# Altium schematic symbol library Movandi_2.SchLib: 14 symbols
Pins are listed as number, name and electrical type; pins without a type are passive.

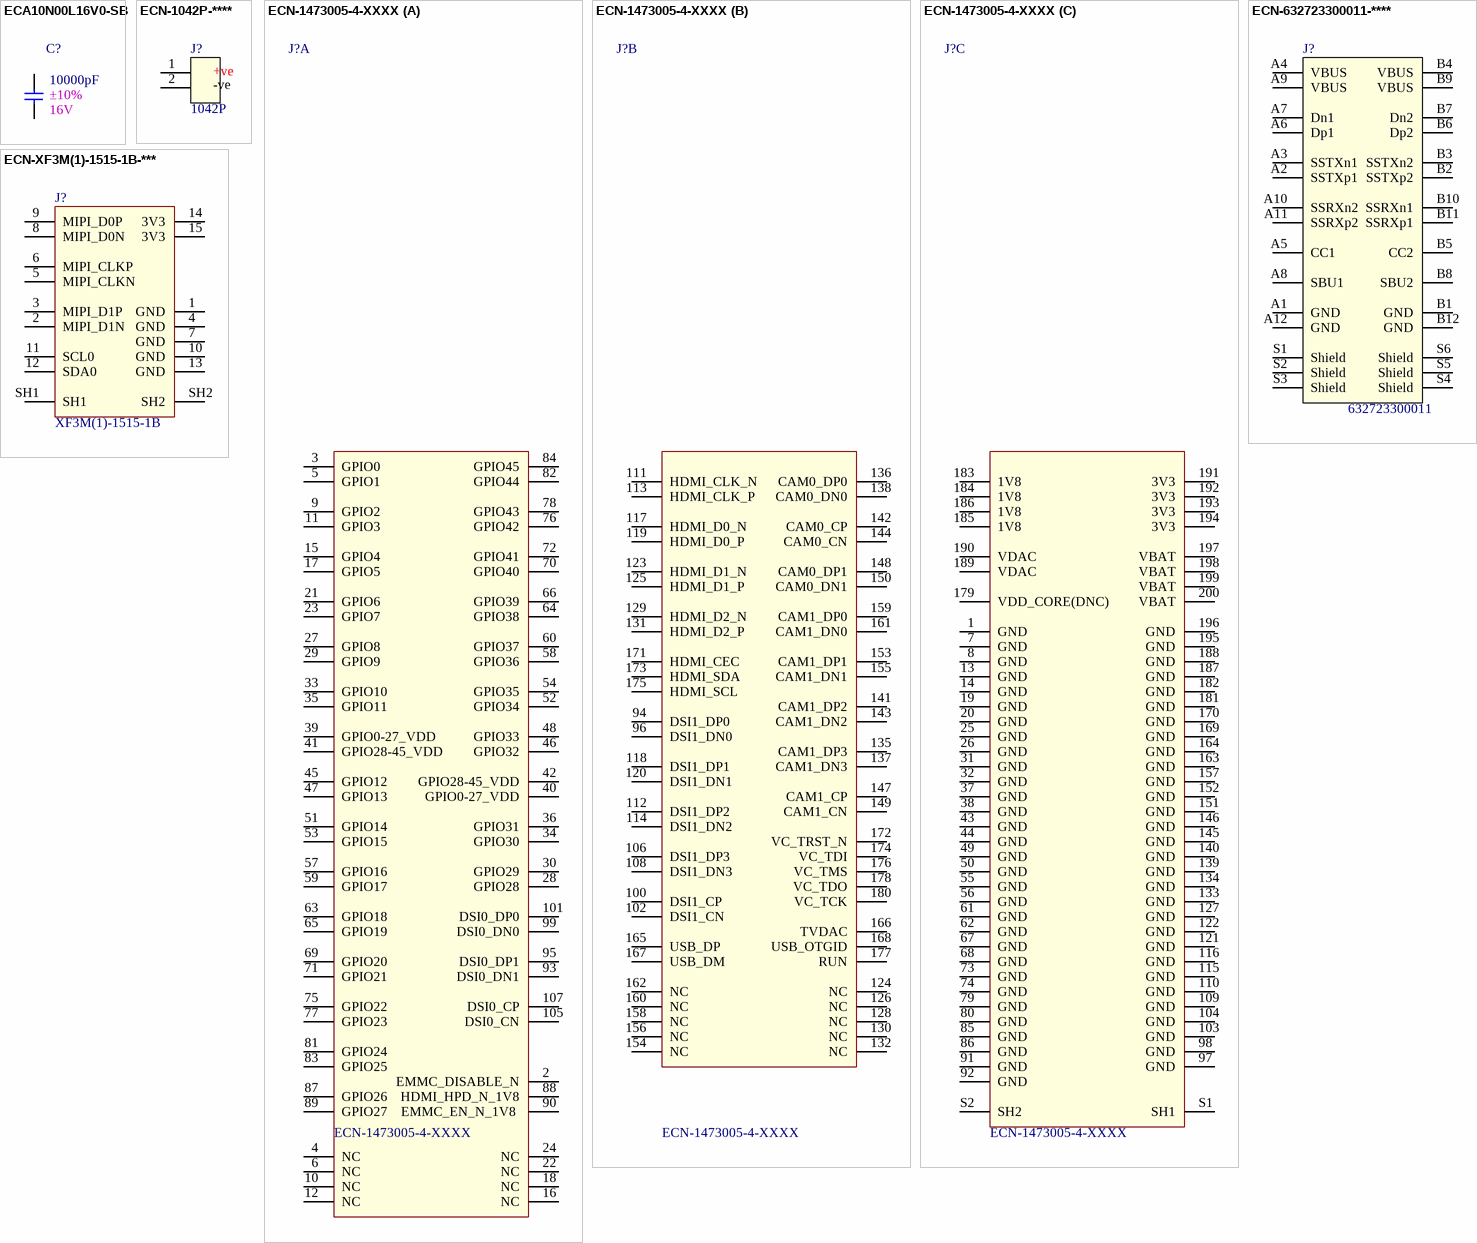
[diagram p0: symbols ECA10N00L16V0-SB to ECN-XF3M(1)-1515-1B-***]

## ECA10N00L16V0-SB
designator C?, comment value 10000pF  1st Auxiliary Field: 16V  2nd Auxiliary Field: ±10%  (hidden comment: CAP CER 10000PF 16V X7R 0402)
Manufacturer: TDK Corporation; Manufacturer Part Number: C1005X7R1C103K050BA; Internal Part Number: ECA10N00L16V0-SB; Vendor Part Number: 445-1262-1-ND; 3rd Auxiliary Field: ROHS3 Compliant; Component Height (mm): 0.55mm; Vendor Name: Digi-Key; Temp Co: X7R; Part Type: CAP CER 10000PF 16V X7R 0402; 4th Auxiliary Field: *
footprint SMDC0402
pins: 1, 2

## ECN-1042P-****
designator J?, comment value 1042P  (hidden comment: BATTERY HOLDER 18650 SMD TAB)
Internal Part Number: ECN-1042P-****; Manufacturer: Keystone Electronics; Vendor Part Number: 36-1042P-ND; 2nd Auxiliary Field: 18650; 3rd Auxiliary Field: ROHS3 Compliant; Component Height (mm): 14.86mm; Temp Co: -50°C ~ 145°C; Vendor Name: Digi-Key; 1st Auxiliary Field: 1; 4th Auxiliary Field: *; Part Type: BATTERY HOLDER 18650 SMD TAB; Manufacturer Part Number: 1042P
footprint BAT_1042P
pins: 1, 2 (power)
text: +ve; -ve

## ECN-1473005-4-XXXX
designator J?
200 Position SODIMM DDR2 SDRAM Socket Surface Mount, Right Angle; Manufacturer: TE Connectivity AMP Connectors; Vendor Part Number: A114851-ND; 2nd Auxiliary Field: ROHS complaint; Component Height (mm): 9mm; Vendor Name: Digi-Key; 1st Auxiliary Field: *; 3rd Auxiliary Field: *; 4th Auxiliary Field: *; Internal Part Number: ECN-1473005-4-XXXX; Manufacturer Part Number: 1473005-4; Part Type: CONN SKT SODIMM 200POS R/A SMD; Temp Co: *; Value: ECN-1473005-4-XXXX
footprint CONN_200_1473005
part A pins: 2 EMMC_DISABLE_N (power), 3 GPIO0 (power), 4 NC (power), 5 GPIO1 (power), 6 NC (power), 9 GPIO2 (power), 10 NC (power), 11 GPIO3 (power), 12 NC (power), 15 GPIO4 (power), 16 NC (power), 17 GPIO5 (power), 18 NC (power), 21 GPIO6 (power), 22 NC (power), 23 GPIO7 (power), 24 NC (power), 27 GPIO8 (power), 28 GPIO28 (power), 29 GPIO9 (power), 30 GPIO29 (power), 33 GPIO10 (power), 34 GPIO30 (power), 35 GPIO11 (power), 36 GPIO31 (power), 39 GPIO0-27_VDD (power), 40 GPIO0-27_VDD (power), 41 GPIO28-45_VDD (power), 42 GPIO28-45_VDD (power), 45 GPIO12 (power), 46 GPIO32 (power), 47 GPIO13 (power), 48 GPIO33 (power), 51 GPIO14 (power), 52 GPIO34 (power), 53 GPIO15 (power), 54 GPIO35 (power), 57 GPIO16 (power), 58 GPIO36 (power), 59 GPIO17 (power), 60 GPIO37 (power), 63 GPIO18 (power), 64 GPIO38 (power), 65 GPIO19 (power), 66 GPIO39 (power), 69 GPIO20 (power), 70 GPIO40 (power), 71 GPIO21 (power), 72 GPIO41 (power), 75 GPIO22 (power), 76 GPIO42 (power), 77 GPIO23 (power), 78 GPIO43 (power), 81 GPIO24 (power), 82 GPIO44 (power), 83 GPIO25 (power), 84 GPIO45 (power), 87 GPIO26 (power), 88 HDMI_HPD_N_1V8 (power), 89 GPIO27 (power), 90 EMMC_EN_N_1V8  (power), 93 DSI0_DN1 (power), 95 DSI0_DP1 (power), 99 DSI0_DN0 (power), 101 DSI0_DP0, 105 DSI0_CN, 107 DSI0_CP
part B pins: 94 DSI1_DP0 (power), 96 DSI1_DN0 (power), 100 DSI1_CP (power), 102 DSI1_CN, 106 DSI1_DP3, 108 DSI1_DN3, 111 HDMI_CLK_N, 112 DSI1_DP2, 113 HDMI_CLK_P, 114 DSI1_DN2, 117 HDMI_D0_N, 118 DSI1_DP1, 119 HDMI_D0_P, 120 DSI1_DN1, 123 HDMI_D1_N, 124 NC, 125 HDMI_D1_P, 126 NC, 128 NC, 129 HDMI_D2_N, 130 NC, 131 HDMI_D2_P, 132 NC, 135 CAM1_DP3, 136 CAM0_DP0, 137 CAM1_DN3, 138 CAM0_DN0, 141 CAM1_DP2, 142 CAM0_CP, 143 CAM1_DN2, 144 CAM0_CN, 147 CAM1_CP, 148 CAM0_DP1, 149 CAM1_CN, 150 CAM0_DN1, 153 CAM1_DP1, 154 NC, 155 CAM1_DN1, 156 NC, 158 NC, 159 CAM1_DP0, 160 NC, 161 CAM1_DN0, 162 NC, 165 USB_DP, 166 TVDAC, 167 USB_DM, 168 USB_OTGID, 171 HDMI_CEC, 172 VC_TRST_N, 173 HDMI_SDA, 174 VC_TDI, 175 HDMI_SCL, 176 VC_TMS, 177 RUN, 178 VC_TDO, 180 VC_TCK
part C pins: 1 GND (power), 7 GND (power), 8 GND (power), 13 GND (power), 14 GND (power), 19 GND (power), 20 GND (power), 25 GND (power), 26 GND (power), 31 GND (power), 32 GND (power), 37 GND (power), 38 GND (power), 43 GND (power), 44 GND (power), 49 GND (power), 50 GND (power), 55 GND (power), 56 GND (power), 61 GND (power), 62 GND (power), 67 GND (power), 68 GND (power), 73 GND (power), 74 GND (power), 79 GND (power), 80 GND (power), 85 GND (power), 86 GND (power), 91 GND (power), 92 GND (power), 97 GND (power), 98 GND (power), 103 GND, 104 GND, 109 GND, 110 GND, 115 GND, 116 GND, 121 GND, 122 GND, 127 GND, 133 GND, 134 GND, 139 GND, 140 GND, 145 GND, 146 GND, 151 GND, 152 GND, 157 GND, 163 GND, 164 GND, 169 GND, 170 GND, 179 VDD_CORE(DNC), 181 GND, 182 GND, 183 1V8, 184 1V8, 185 1V8, 186 1V8, 187 GND, 188 GND, 189 VDAC, 190 VDAC, 191 3V3, 192 3V3, 193 3V3, 194 3V3, 195 GND, 196 GND, 197 VBAT, 198 VBAT, 199 VBAT, 200 VBAT, S1 SH1, S2 SH2

## ECN-632723300011-****
designator J?, comment value 632723300011  (hidden comment: CONN RCP USB3.1 TYPEC 24P SMD RA)
Internal Part Number: ECN-632723300011-****; Manufacturer: Würth Elektronik; Vendor Part Number: 732-9618-1-ND; 2nd Auxiliary Field: 5A; 3rd Auxiliary Field: ROHS3 Compliant; 4th Auxiliary Field: 20VDC; Component Height (mm): 2.96mm; Temp Co: -40°C ~ 105°C; Vendor Name: Digi-Key; 1st Auxiliary Field: 24; Part Type: CONN RCP USB3.1 TYPEC 24P SMD RA; Manufacturer Part Number: 632723300011
footprint CONN_632723100011 (USB 3.1 Type C Receptacle Horizontal THR)
pins: A1 GND, A2 SSTXp1 (power), A3 SSTXn1 (power), A4 VBUS (power), A5 CC1 (power), A6 Dp1 (power), A7 Dn1 (power), A8 SBU1 (power), A9 VBUS (power), A10 SSRXn2 (power), A11 SSRXp2 (power), A12 GND (power), B1 GND (power), B2 SSTXp2 (power), B3 SSTXn2 (power), B4 VBUS (power), B5 CC2 (power), B6 Dp2 (power), B7 Dn2 (power), B8 SBU2 (power), B9 VBUS (power), B10 SSRXn1 (power), B11 SSRXp1 (power), B12 GND (power), S1 Shield (power), S2 Shield (power), S3 Shield (power), S4 Shield (power), S5 Shield (power), S6 Shield (power)

## ECN-XF3M(1)-1515-1B-***
designator J?, comment Manufacturer Part Number: XF3M(1)-1515-1B  (hidden comment: CONN FFC FPC 15POS 1.00MM R/A)
Manufacturer: Omron Electronics Inc-EMC Div; Internal Part Number: ECN-XF3M(1)-1515-1B-***; Vendor Part Number: OR1213CT-ND; Vendor Name: Digi-Key; 1st Auxiliary Field: 1.00mm Pitch; 2nd Auxiliary Field: 50V; 3rd Auxiliary Field: RoHS Compliant; 4th Auxiliary Field: 0.5A; Component Height (mm): 2.00mm; Temp Co: -30°C ~ 85°C; Value: XF3M(1)-1515-1B; Part Type: CONN FFC FPC 15POS 1.00MM R/A
footprint CONN_XF3M(1)-1515-1B
pins: 1 GND (power), 2 MIPI_D1N (power), 3 MIPI_D1P (power), 4 GND (power), 5 MIPI_CLKN (power), 6 MIPI_CLKP (power), 7 GND (power), 8 MIPI_D0N (power), 9 MIPI_D0P (power), 10 GND (power), 11 SCL0 (power), 12 SDA0 (power), 13 GND (power), 14 3V3 (power), 15 3V3 (power), SH1 (power), SH2 (power)

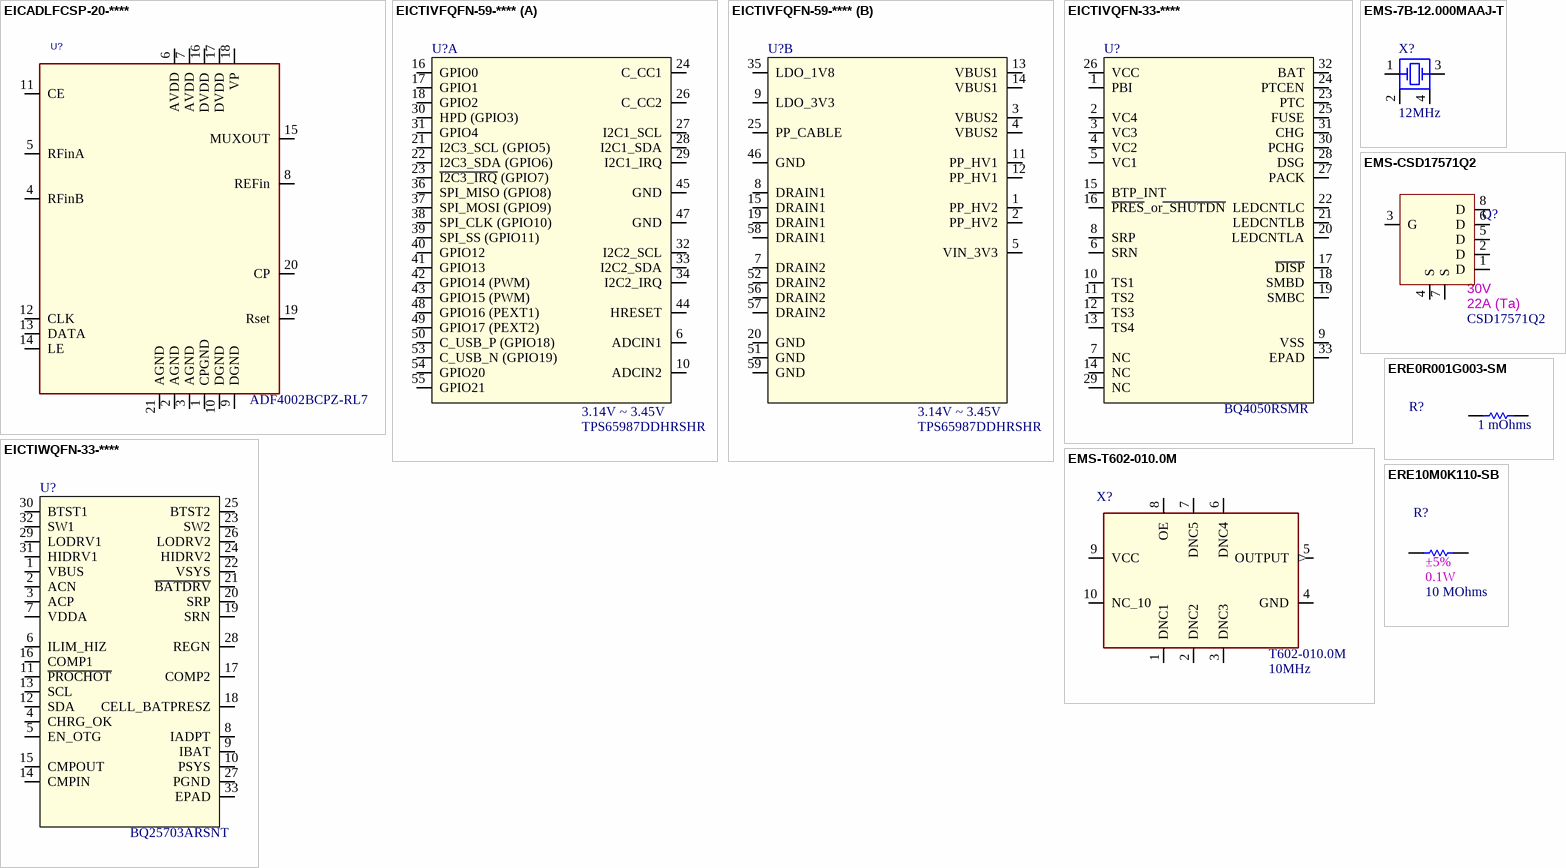
[diagram p1: symbols EICADLFCSP-20-**** to ERE10M0K110-SB]

## EICADLFCSP-20-****
designator U?, comment value ADF4002BCPZ-RL7  (hidden comment: IC PLL FREQUENCY SYNTH 20-LFCSP)
Manufacturer: Analog Devices Inc.; Vendor Part Number: ADF4002BCPZ-RL7CT-ND; Internal Part Number: EICADLFCSP-20-****; 2nd Auxiliary Field: CMOS, TTL; 3rd Auxiliary Field: ROHS3 Compliant; Vendor: Digi-Key; Temp Co.: -40°C ~ 85°C; Component Height (mm): 0.8mm; 1st Auxiliary Field: 2.7V ~ 3.3V; Manufacturer PN: ADF4002BCPZ-RL7; 4th Auxiliary Field: *; Part Type: IC PLL FREQUENCY SYNTH 20-LFCSP
footprint QFN50P400X400X80_HS-21N (QFN, 20-Leads, Body 4.00x4.00mm, Pitch 0.50mm, Thermal Pad 2.30x2.30mm, IPC Medium Density)
pins: 1 CPGND, 2 AGND (power), 3 AGND (power), 4 RFinB, 5 RFinA, 6 AVDD (power), 7 AVDD (power), 8 REFin, 9 DGND (power), 10 DGND (power), 11 CE, 12 CLK, 13 DATA, 14 LE, 15 MUXOUT, 16 DVDD (power), 17 DVDD (power), 18 VP, 19 Rset, 20 CP, 21 AGND (power)

## EICTIVFQFN-59-****
designator U?, comment value TPS65987DDHRSHR  1st Auxiliary Field: 3.14V ~ 3.45V  (hidden comment: USB, Type-C Controller PMIC 56-VQFN)
Internal Part Number: EICTIVFQFN-59-****; Manufacturer: Texas Instruments; Vendor Part Number: 296-52067-1-ND; 2nd Auxiliary Field: 8mA; 3rd Auxiliary Field: ROHS3 Compliant; Component Height (mm): 1mm; Temp Co: -10°C ~ 75°C; Vendor Name: Digi-Key; 4th Auxiliary Field: *; Part Type: USB, Type-C Controller PMIC 56-VQFN; Manufacturer Part Number: TPS65987DDHRSHR
footprint VQFN40P700X700X100_HS-59N
part A pins: 6 ADCIN1, 10 ADCIN2, 16 GPIO0, 17 GPIO1, 18 GPIO2, 21 I2C3_SCL (GPIO5), 22 I2C3_SDA (GPIO6), 23 ~{I2C3_IRQ} (GPIO7), 24 C_CC1, 26 C_CC2, 27 I2C1_SCL, 28 I2C1_SDA, 29 I2C1_IRQ, 30 HPD (GPIO3), 31 GPIO4, 32 I2C2_SCL, 33 I2C2_SDA, 34 I2C2_IRQ, 36 SPI_MISO (GPIO8), 37 SPI_MOSI (GPIO9), 38 SPI_CLK (GPIO10), 39 SPI_SS (GPIO11), 40 GPIO12, 41 GPIO13, 42 GPIO14 (PWM), 43 GPIO15 (PWM), 44 HRESET, 45 GND, 47 GND, 48 GPIO16 (PEXT1), 49 GPIO17 (PEXT2), 50 C_USB_P (GPIO18), 53 C_USB_N (GPIO19), 54 GPIO20, 55 GPIO21
part B pins: 1 PP_HV2, 2 PP_HV2, 3 VBUS2, 4 VBUS2, 5 VIN_3V3, 7 DRAIN2, 8 DRAIN1, 9 LDO_3V3, 11 PP_HV1, 12 PP_HV1, 13 VBUS1, 14 VBUS1, 15 DRAIN1, 19 DRAIN1, 20 GND, 25 PP_CABLE, 35 LDO_1V8, 46 GND, 51 GND, 52 DRAIN2, 56 DRAIN2, 57 DRAIN2, 58 DRAIN1, 59 GND

## EICTIVQFN-33-****
designator U?, comment value BQ4050RSMR  (hidden comment: IC BATT MFUNC LI-ION 32VQFN)
Internal Part Number: EICTIVQFN-33-****; Manufacturer: Texas Instruments; Vendor Part Number: 296-48498-1-ND; 2nd Auxiliary Field: Multi-Function Controller; 3rd Auxiliary Field: ROHS3 Compliant; Component Height (mm): 1mm; Temp Co: -40°C ~ 85°C (TA); Vendor Name: Digi-Key; 1st Auxiliary Field: 1 ~ 4; 4th Auxiliary Field: *; Part Type: IC BATT MFUNC LI-ION 32VQFN; Manufacturer Part Number: BQ4050RSMR
footprint VQFN40P400X400X100_HS-33N (VQFN, 32-Leads, Body 4.00x4.00mm, Pitch 0.40mm, Thermal Pad 1.40x1.40mm, IPC Medium Density)
pins: 1 PBI, 2 VC4, 3 VC3, 4 VC2, 5 VC1, 6 SRN, 7 NC, 8 SRP, 9 VSS, 10 TS1, 11 TS2, 12 TS3, 13 TS4, 14 NC, 15 BTP_INT, 16 ~{PRES}_or~{_SHUTDN}, 17 ~{DISP}, 18 SMBD, 19 SMBC, 20 LEDCNTLA, 21 LEDCNTLB, 22 LEDCNTLC, 23 PTC, 24 PTCEN, 25 FUSE, 26 VCC, 27 PACK, 28 DSG, 29 NC, 30 PCHG, 31 CHG, 32 BAT, 33 EPAD

## EICTIWQFN-33-****
designator U?, comment value BQ25703ARSNT  (hidden comment: IC BATT MON MULTI-CHEM 32WQFN)
Internal Part Number: EICTIWQFN-33-****; Manufacturer: Texas Instruments; Vendor Part Number: 296-46956-1-ND; 2nd Auxiliary Field: Battery Monitor; 3rd Auxiliary Field: ROHS3 Compliant; Component Height (mm): 0.8mm; Temp Co: -40°C ~ 85°C (TA); Vendor Name: Digi-Key; 1st Auxiliary Field: 1 ~ 4; 4th Auxiliary Field: *; Part Type: IC BATT MON MULTI-CHEM 32WQFN; Manufacturer Part Number: BQ25703ARSNT
footprint WQFN40P400X400X80_HS-33N (IC BATT MON MULTI-CHEM 32WQFN)
pins: 1 VBUS, 2 ACN, 3 ACP, 4 CHRG_OK, 5 EN_OTG, 6 ILIM_HIZ, 7 VDDA, 8 IADPT, 9 IBAT, 10 PSYS, 11 ~{PROCHOT}, 12 SDA, 13 SCL, 14 CMPIN, 15 CMPOUT, 16 COMP1, 17 COMP2, 18 CELL_BATPRESZ, 19 SRN, 20 SRP, 21 ~{BATDRV}, 22 VSYS, 23 SW2, 24 HIDRV2, 25 BTST2, 26 LODRV2, 27 PGND, 28 REGN, 29 LODRV1, 30 BTST1, 31 HIDRV1, 32 SW1, 33 EPAD

## EMS-7B-12.000MAAJ-T
designator X?, comment value 12MHz  (hidden comment: CRYSTAL 12.0000MHZ 18PF SMD)
Manufacturer Part Number: 7B-12.000MAAJ-T; Manufacturer: TXC CORPORATION; Internal Part Number: EMS-7B-12.000MAAJ-T; Vendor Part Number: 887-1099-1-ND; Component Height (mm): 1.05mm; 3rd Auxiliary Field: 100 Ohms; 4th Auxiliary Field: RoHS Compliant; 2nd Auxiliary Field: ±30ppm; Vendor Name: Digi-Key; Temp Co: -20°C ~ 70°C; Part Type: CRYSTAL 12.0000MHZ 18PF SMD; 1st Auxiliary Field: 18pF
footprint XTAL_7B-12.000MAAJ-T
pins: 1 OSC1, 2 GND, 3 OSC2, 4 GND

## EMS-CSD17571Q2
designator Q?, comment value CSD17571Q2  1st Auxiliary Field: 30V  2nd Auxiliary Field: 22A (Ta)  (hidden comment: MOSFET N-CH 30V 22A 6SON)
Internal Part Number: EMS-CSD17571Q2; Manufacturer: Texas Instruments; Vendor Part Number: 296-37193-1-ND; Temp Co: -55°C ~ 150°C (TJ); 3rd Auxiliary Field: ROHS3 Compliant; Component Height (mm): 0.85mm; Vendor Name: Digi-Key; Part Type: MOSFET N-CH 30V 22A 6SON; 4th Auxiliary Field: *; Manufacturer Part Number: CSD17571Q2
footprint WDFN200X200-8N
pins: 1 D, 2 D, 3 G, 4 S, 5 D, 6 D, 7 S, 8 D
1 alternate drawing of the same symbol

## EMS-T602-010.0M
designator X?, comment value T602-010.0M  1st Auxiliary Field: 10MHz  (hidden comment: IC XLATR 22BIT BI-DIXTAL OSC TCXO 10.0000MHZ LVCMOSEC 48SSOP)
XTAL OSC TCXO 10.0000MHZ LVCMOS; Internal Part Number: EMS-T602-010.0M; Manufacturer: Connor-Winfield; Vendor Part Number: CW780CT-ND; 3rd Auxiliary Field: 3.3V; 4th Auxiliary Field: ROHS Compliant; Component Height (mm): 2mm; Temp Co: -40°C ~ 85°C (TA); Vendor Name: Digi-Key; Part Type: XTAL OSC TCXO 10.0000MHZ LVCMOS; Manufacturer Part Number: T602-010.0M; 2nd Auxiliary Field: LVCMOS
footprint OSC_T602-010.0M-10N
pins: 1 DNC1 (power), 2 DNC2, 3 DNC3, 4 GND (power), 5 OUTPUT (out), 6 DNC4 (power), 7 DNC5, 8 OE, 9 VCC (power), 10 NC_10

## ERE0R001G003-SM
designator R?, comment value 1 mOhms  (hidden comment: RES 0.001 OHM 1% 3W 2512)
Manufacturer Part Number: CSR2512C0R001F; Manufacturer: Riedon; Internal Part Number: ERE0R001G003-SM; Vendor Part Number: 696-1185-1-ND; Component Height (mm): 0.85mm; 3rd Auxiliary Field: ROHS3 Compliant; Vendor Name: Digi-Key; Temp Co: -55°C ~ 170°C; Part Type: RES 0.001 OHM 1% 3W 2512; 4th Auxiliary Field: *; 1st Auxiliary Field: 3W; 2nd Auxiliary Field: ±1%
footprint SMDR2512 (Chip Resistor, Body 6.3x3.2mm, IPC Low Density)
pins: 1, 2

## ERE10M0K110-SB
designator R?, comment value 10 MOhms  2nd Auxiliary Field: ±5%  1st Auxiliary Field: 0.1W  (hidden comment: RES SMD 10M OHM 5% 1/10W 0402)
Manufacturer Part Number: ERJ-2GEJ106X; Manufacturer: Panasonic Electronic Components; Internal Part Number: ERE10M0K110-SB; Vendor Part Number: P10MJCT-ND; 3rd Auxiliary Field: ROHS3 Compliant; Component Height (mm): 0.4mm; Temp Co: -55°C ~ 155°C; Vendor Name: Digi-Key; Part Type: RES SMD 10M OHM 5% 1/10W 0402; 4th Auxiliary Field: *
footprint SMDR0402
pins: 1, 2